# EAGLE library part ISO1050DUBR (library brewbox-components)
ISOLATED CAN TRANSCEIVER
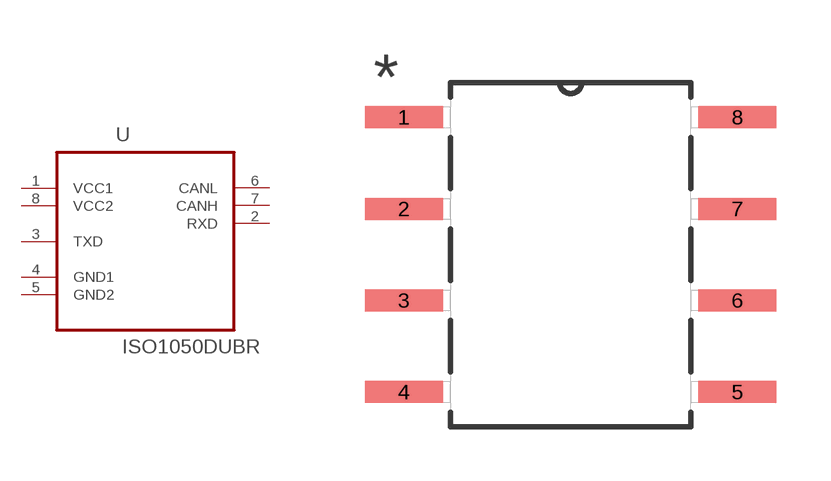
[diagram p17: symbol with the pads of SOIC254P1040X485-8N; footprint SOIC254P1040X485-8N]

Designator prefix U

## ISO1050DUBR (MPN: ISO1050DUBR; OC_FARNELL: 1755712; OC_NEWARK: 14R9899; PACKAGE: DIP-8; SUPPLIER: TEXAS INSTRUMENTS)  [SOIC254P1040X485-8N]
1  VCC1  pwr
2  RXD  out
3  TXD  in
4  GND1  pas
5  GND2  pas
6  CANL
7  CANH
8  VCC2  pwr

## Footprint SOIC254P1040X485-8N (pad centres in mm)
smd 2.159 x 0.61: 1 -4.623,3.81; 2 -4.623,1.27; 3 -4.623,-1.27; 4 -4.623,-3.81; 5 4.623,-3.81; 6 4.623,-1.27; 7 4.623,1.27; 8 4.623,3.81